# Altium footprint library LM2596_module.PcbLib: 1 footprints
Each footprint in its own frame and in the unit in brackets; x right, y up, seen from the top. Pads: shape width x height; smd on the part's side, far side on the other; paste and mask are expansions set on the pad; w line width, h text height; cw(c..) or ccw(c..) is an arc to the next point about the centre after c.
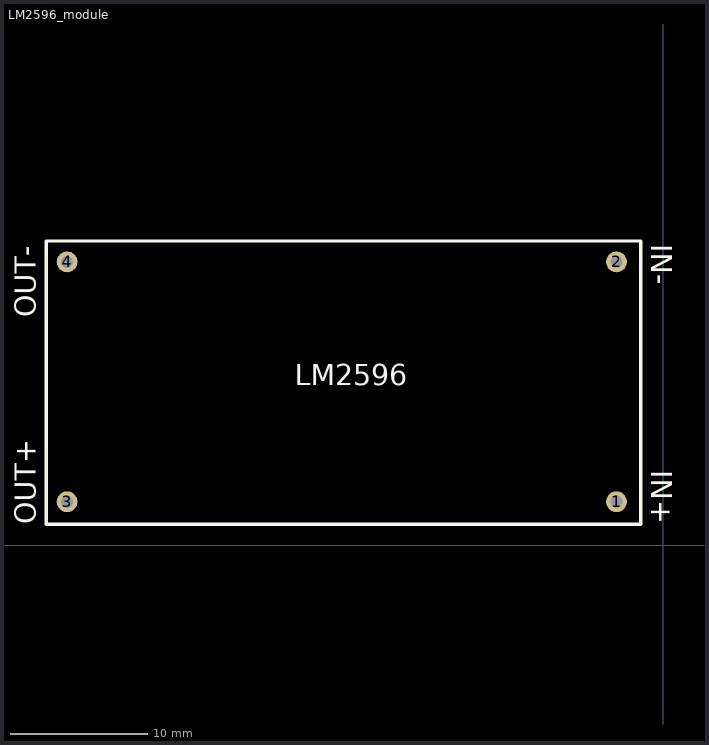
[diagram p0: the footprint, top view; thin cyan lines are the x and y axes]

## LM2596_module [mil]
pads (4):
  round 60 hole 35: 1(-135,125) 2(-135,815) 3(-1715,125) 4(-1715,815)
Top Overlay:
  lines w10: -1775,60 -65,60 -65,875 -1775,875 -1775,60
  text "OUT-" at -1805,655 h60
  text "OUT+" at -1805,60 h60
  text "IN-" at -35,865 h60
  text "IN+" at -35,215 h60
  text "LM2596" at -1060,460 h60
3D body "LM2596 DC to DC Buck Converter 3 A.x_t": height 40.87, standoff -555.59, extent -1775.39,51.69 -74.61,888.31